# Altium footprint library Passives.PcbLib: 24 footprints (part 1 of 2)
Each footprint in its own frame and in the unit in brackets; x right, y up, seen from the top. Pads: shape width x height; smd on the part's side, far side on the other; paste and mask are expansions set on the pad; w line width, h text height; cw(c..) or ccw(c..) is an arc to the next point about the centre after c.
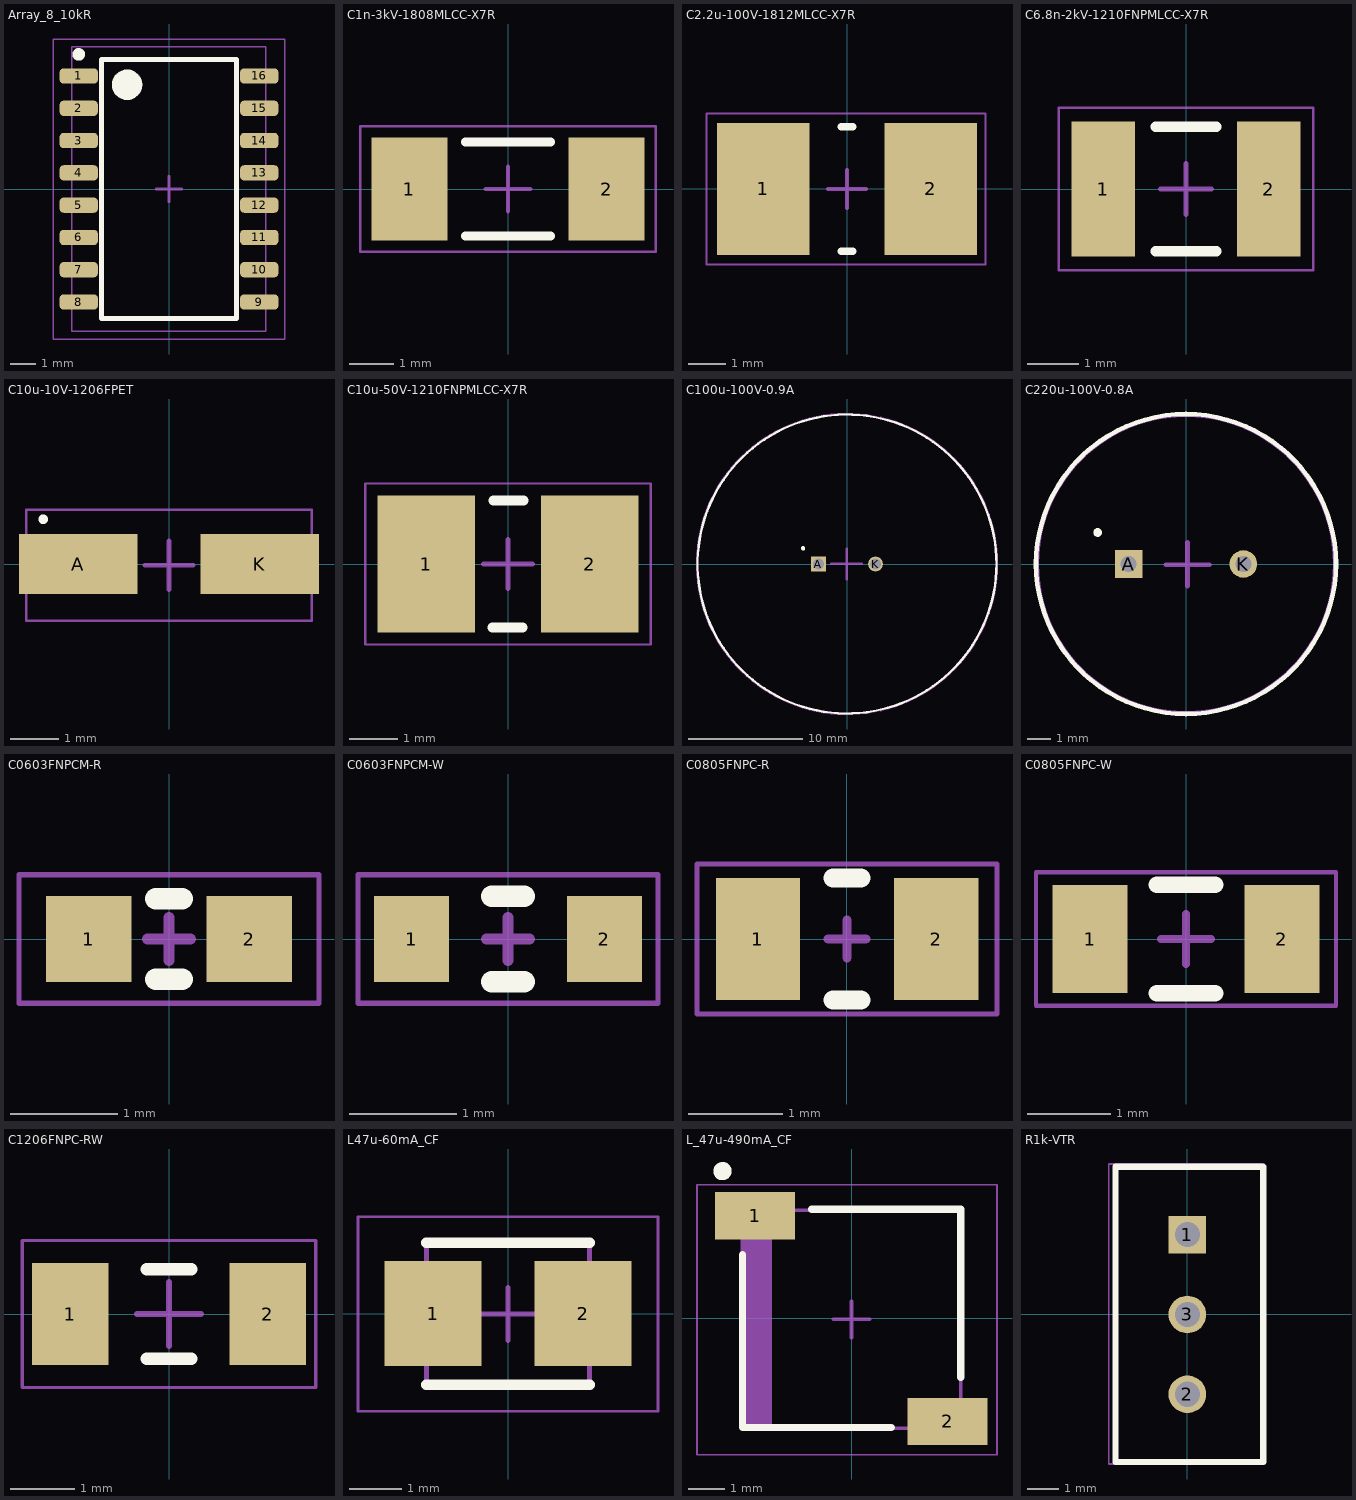
[diagram p0: the footprints below, top view; thin cyan lines are the x and y axes]

## Array_8_10kR [mm] "SOIC, 16-Leads, Body 11,18x5,59mm, Pitch 1,27mm, IPC Medium Density"
height 2.15
pads (16):
  rrect50% 1.5x0.6 smd: 1(-3.55,4.445) 2(-3.55,3.175) 3(-3.55,1.905) 4(-3.55,0.635) 5(-3.55,-0.635) 6(-3.55,-1.905) 7(-3.55,-3.175) 8(-3.55,-4.445) 9(3.55,-4.445) 10(3.55,-3.175) 11(3.55,-1.905) 12(3.55,-0.635) 13(3.55,0.635) 14(3.55,1.905) 15(3.55,3.175) 16(3.55,4.445)
Top Overlay:
  circle w0.25: c-3.55,5.295 r0.125
  circle w0.6: c-1.65,4.1 r0.3
  lines w0.2: -2.65,-5.1 -2.65,5.1 2.65,5.1 2.65,-5.1 -2.65,-5.1
Top Component Outline:
  lines w0.05: -4.55,-5.9 -4.55,5.9 4.55,5.9 4.55,-5.9 -4.55,-5.9 ; -3.825,-5.6 -3.825,5.6 3.8,5.6 3.8,-5.6 -3.825,-5.6
  lines w0.1: -0.5,0 0.5,0 ; 0,-0.5 0,0.5
  text "'.Designator'" at -3.925,-1.567 h0.7
3D body "4816P-T01-103LF.stp": height 2.15, standoff 0, extent -3.81,-5.59 3.81,5.59

## C1n-3kV-1808MLCC-X7R [mm] "Chip Capacitor, 2-Leads, Body 4,60x2,04mm, IPC Medium Density"
height 2.2
pads (2):
  rect 1.7x2.3 smd: 1(-2.2,0) 2(2.2,0)
Top Overlay:
  lines w0.2: -0.95,-1.05 0.95,-1.05 ; -0.95,1.05 0.95,1.05
Top Component Outline:
  lines w0.05: -3.3,-1.4 -3.3,1.4 3.3,1.4 3.3,-1.4 -3.3,-1.4
  lines w0.1: -0.5,0 0.5,0 ; 0,-0.5 0,0.5
  text "'.Designator'" at -3.2,-1.067 h0.7
3D body "885342210004.stp": height 2.21, standoff 0.01, extent -2.3,-1.015 2.3,1.015

## C2.2u-100V-1812MLCC-X7R [mm] "Chip Capacitor, 2-Leads, Body 4,50x3,20mm, IPC Medium Density"
height 2.7
pads (2):
  rect 2.45x3.5 smd: 1(-2.225,0) 2(2.225,0)
Top Overlay:
  lines w0.2: -0.15,-1.65 0.15,-1.65 ; -0.15,1.65 0.15,1.65
Top Component Outline:
  lines w0.05: -3.725,-2 -3.725,2 3.675,2 3.675,-2 -3.725,-2
  lines w0.1: -0.5,0 0.5,0 ; 0,-0.5 0,0.5
  text "'.Designator'" at -3.625,-1.667 h0.7
3D body "HMK432B7225KM-T.stp": height 2.71, standoff 0.01, extent -2.25,-1.6 2.25,1.6

## C6.8n-2kV-1210FNPMLCC-X7R [mm] "Chip Capacitor, 2-Leads, Body 3,20x2,50mm, IPC Medium Density"
height 2
pads (2):
  rect 1.25x2.65 smd: 1(-1.625,0) 2(1.625,0)
Top Overlay:
  lines w0.2: -0.6,-1.225 0.6,-1.225 ; -0.6,1.225 0.6,1.225
Top Component Outline:
  lines w0.05: -2.5,-1.6 2.5,-1.6 2.5,1.6 -2.5,1.6 -2.5,-1.6
  lines w0.1: -0.5,0 0.5,0 ; 0,-0.5 0,0.5
  text "'.Designator'" at -2.4,-1.267 h0.7
3D body "C1210C682KGRACAUTO.stp": height 2.78, standoff -0.02, extent -1.6,-1.263 1.6,1.237

## C10u-10V-1206FPET [mm] "Molded Capacitor, 2-Leads, Body 3,20x1,60mm, IPC Medium Density"
height 1.8
pads (2):
  rect 2.45x1.25 smd: A(-1.875,0) K(1.875,0)
Top Overlay:
  circle w0.1: c-2.6,0.925 r0.05
Top Component Outline:
  lines w0.05: -2.95,-1.175 2.95,-1.175 2.95,1.125 -2.95,1.125 -2.95,-1.175
  lines w0.1: -0.5,-0.025 0.5,-0.025 ; 0,-0.525 0,0.475
  text "'.Designator'" at -2.85,-0.842 h0.7
3D body "TR3A106K010C1800.stp": height 1.84, standoff 0.01, extent -1.702,-0.949 1.702,0.949

## C10u-50V-1210FNPMLCC-X7R [mm]
height 2.8
pads (2):
  rect 2x2.8 smd: 1(-1.675,0) 2(1.675,0)
Top Overlay:
  lines w0.2: -0.325,-1.3 0.3,-1.3 ; -0.3,1.3 0.325,1.3
Top Component Outline:
  lines w0.05: -2.925,-1.65 2.925,-1.65 2.925,1.65 -2.925,1.65 -2.925,-1.65
  lines w0.1: -0.5,0 0.5,0 ; 0,-0.5 0,0.5
  text "'.Designator'" at -2.825,-1.317 h0.7
3D body "GRJ32ER71H106KE11L.stp": height 2.78, standoff -0.02, extent -1.6,-1.25 1.6,1.25

## C100u-100V-0.9A [mm]
pads (2):
  rect 1.3x1.3 hole 1: A(-2.5,0)
  round 1.3 hole 1: K(2.5,0)
Top Overlay:
  circle w0.2: c-3.85,1.375 r0.09
  circle w0.2: c0,0 r13.1
Top Component Outline:
  circle w0.2: c0,0 r13.148
  lines w0.2: -1.375,0.014 1.31,0.014 ; -0.025,-1.325 -0.025,1.325
  text "'.Designator'" at -3.675,-3.192 h0.7
3D body: height 0.01, standoff -14.99, extent 1.9,-0.6 3.1,0.6
3D body: height 0.01, standoff -19.99, extent -3.1,-0.6 -1.9,0.6
3D body: height 25.01, standoff 0.01, extent -13,-13 13,13

## C220u-100V-0.8A [mm]
pads (2):
  rect 1.2x1.2 hole 0.7: A(-2.5,0)
  round 1.2 hole 0.7: K(2.5,0)
Top Overlay:
  circle w0.2: c0,0 r6.534
  circle w0.2: c-3.85,1.375 r0.09
Top Component Outline:
  circle w0.2: c0,0 r6.502
  lines w0.2: -0.875,-0.025 1.025,-0.025 ; 0.064,-0.962 0.064,0.938
  text "'.Designator'" at -3.9,-3.042 h0.7
3D body "EKZE101ELL221MK25S.stp": height 26.51, standoff -9.99, extent -6.5,-6.497 6.5,6.497

## C0603FNPCM-R [mm]
pads (2):
  rect 0.8x0.8 smd: 1(-0.75,0) 2(0.75,0)
Top Overlay:
  lines w0.2: -0.125,-0.375 0.125,-0.375 ; -0.125,0.375 0.125,0.375
Top Component Outline:
  lines w0.05: -1.4,-0.6 -1.4,0.6 1.4,0.6 1.4,-0.6 -1.4,-0.6
  lines w0.1: -0.2,0 0.2,0 ; 0,-0.2 0,0.2
  text "'.Designator'" at -1.3,-0.267 h0.7
3D body "885012206038.stp": height 0.87, standoff 0, extent -0.8,-0.4 0.8,0.4

## C0603FNPCM-W [mm]
pads (2):
  rect 0.7x0.8 smd: 1(-0.9,0) 2(0.9,0)
Top Overlay:
  lines w0.2: -0.15,-0.4 0.15,-0.4 ; -0.15,0.4 0.15,0.4
Top Component Outline:
  lines w0.05: -1.4,-0.6 -1.4,0.6 1.4,0.6 1.4,-0.6 -1.4,-0.6
  lines w0.1: -0.2,0 0.2,0 ; 0,-0.2 0,0.2
  text "'.Designator'" at -1.3,-0.267 h0.7
3D body "885012206038.stp": height 0.87, standoff 0, extent -0.8,-0.4 0.8,0.4

## C0805FNPC-R [mm]
pads (2):
  rect 0.9x1.3 smd: 1(-0.95,0) 2(0.95,0)
Top Overlay:
  lines w0.2: -0.15,-0.65 0.15,-0.65 ; -0.15,0.65 0.15,0.65
Top Component Outline:
  lines w0.05: -1.6,-0.8 1.6,-0.8 1.6,0.8 -1.6,0.8 -1.6,-0.8
  lines w0.1: -0.2,0 0.2,0 ; 0,-0.2 0,0.2
  text "'.Designator'" at -1.5,-0.467 h0.7
3D body "GRM219R61A475KE34D.stp": height 0.96, standoff 0.01, extent -1.025,-0.625 0.975,0.625

## C0805FNPC-W [mm]
pads (2):
  rect 0.9x1.3 smd: 1(-1.15,0) 2(1.15,0)
Top Overlay:
  lines w0.2: -0.35,-0.65 0.35,-0.65 ; -0.35,0.65 0.35,0.65
Top Component Outline:
  lines w0.05: -1.8,-0.8 -1.8,0.8 1.8,0.8 1.8,-0.8 -1.8,-0.8
  lines w0.1: -0.3,0 0.3,0 ; 0,-0.3 0,0.3
  text "'.Designator'" at -1.7,-0.467 h0.7
3D body "GRM219R61A475KE34D.stp": height 0.96, standoff 0.01, extent -1.002,-0.625 0.998,0.625

## C1206FNPC-RW [mm] "Chip Capacitor, 2-Leads, Body 3,20x1,60mm, IPC Medium Density"
height 0.9
pads (2):
  rect 1.2x1.6 smd: 1(-1.55,0) 2(1.55,0)
Top Overlay:
  lines w0.2: -0.35,-0.7 0.35,-0.7 ; -0.35,0.7 0.35,0.7
Top Component Outline:
  lines w0.05: -2.3,-1.15 -2.3,1.15 2.3,1.15 2.3,-1.15 -2.3,-1.15
  lines w0.1: -0.5,0 0.5,0 ; 0,-0.5 0,0.5
  text "'.Designator'" at -2.2,-0.817 h0.7
3D body "885012208058.stp": height 0.91, standoff 0.01, extent -1.595,-0.768 1.605,0.832

## L47u-60mA_CF [mm] "Molded Inductor, 2-Leads, Body 2,90x2,50mm, IPC Low Density"
height 2.4
pads (2):
  rect 1.85x2 smd: 1(-1.425,0) 2(1.425,0)
Top Overlay:
  lines w0.2: -1.55,-1.35 1.55,-1.35 ; -1.55,1.35 1.55,1.35
Top Component Outline:
  lines w0.05: -2.85,-1.858 2.85,-1.858 2.85,1.842 -2.85,1.842 -2.85,-1.858
  lines w0.1: -0.5,-0.008 0.5,-0.008 ; 0,-0.508 0,0.492 ; -1.55,-1.358 1.55,-1.358 1.55,1.342 -1.55,1.342 -1.55,-1.358
  text "'.Designator'" at -2.775,-0.617 h0.7
3D body "71070638.stp": height 2.21, standoff 0.01, extent -1.6,-1.25 1.6,1.25

## L_47u-490mA_CF [mm] "Precision Wire Wound Inductor, 2-Leads, Body 5,80x5,80mm, IPC Medium Density"
height 2.5
pads (2):
  rect 2.2x1.3 smd: 1(-2.65,2.825) 2(2.643,-2.832)
Top Overlay:
  circle w0.25: c-3.55,4.05 r0.125
  lines w0.2: -3,1.75 -3,-3 1.1,-3 ; -1.1,3 3,3 3,-1.625
Top Component Outline:
  rectangle: -3,-3.025 -2.193,2.975
  lines w0.05: -4.25,-3.75 -4.25,3.675 4,3.675 4,-3.75 -4.25,-3.75
  lines w0.1: -0.5,-0.025 0.5,-0.025 ; 0,-0.525 0,0.475 ; -3,-3.025 3,-3.025 3,2.975 -3,2.975 -3,-3.025
  text "'.Designator'" at -4.05,-0.767 h0.7
3D body: height 2.5, standoff 0, extent -3,-3 3,3

## R1k-VTR [mm]
pads (3):
  rect 1.2x1.2 hole 0.8: 1(0,2.54)
  round 1.2 hole 0.8: 2(0,-2.54) 3(0,0)
Top Overlay:
  lines w0.2: 0.635,4.699 2.413,4.699 2.413,-4.699 -2.286,-4.699 -2.286,4.699 1.905,4.699
Top Component Outline:
  lines w0.05: -2.5,-4.76 -2.5,4.79 2.4,4.79 2.4,-4.76 -2.5,-4.76
  text "'.Designator'" at -2.425,-0.342 h0.7
3D body "3296W-1-100LF.stp": height 11.09, standoff -3.47, extent -2.489,-4.775 2.342,4.775